# Altium schematic symbol library WIZ820io.SchLib: 1 symbol
Pins are listed as number, name and electrical type; pins without a type are passive.

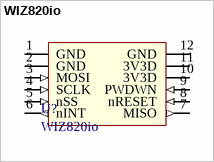
[diagram p0: symbol WIZ820io]

## WIZ820io
designator U?
WIZ820io, Ethernet module with W5200 module onboard and MAG-JACK; Manufacturer: WIZnet; MPN: WIZ820IO; Digi-Key: 1278-1015-ND
footprint Wiz820io
pins: 1 GND, 2 GND, 3 MOSI (in), 4 SCLK (in), 5 nSS (in), 6 nINT (out), 7 MISO (out), 8 nRESET (in), 9 PWDWN (in), 10 3V3D, 11 3V3D, 12 GND